# Altium footprint library Manu3.PcbLib: 69 footprints (part 2 of 5)
Each footprint in its own frame and in the unit in brackets; x right, y up, seen from the top. Pads: shape width x height; smd on the part's side, far side on the other; paste and mask are expansions set on the pad; w line width, h text height; cw(c..) or ccw(c..) is an arc to the next point about the centre after c.
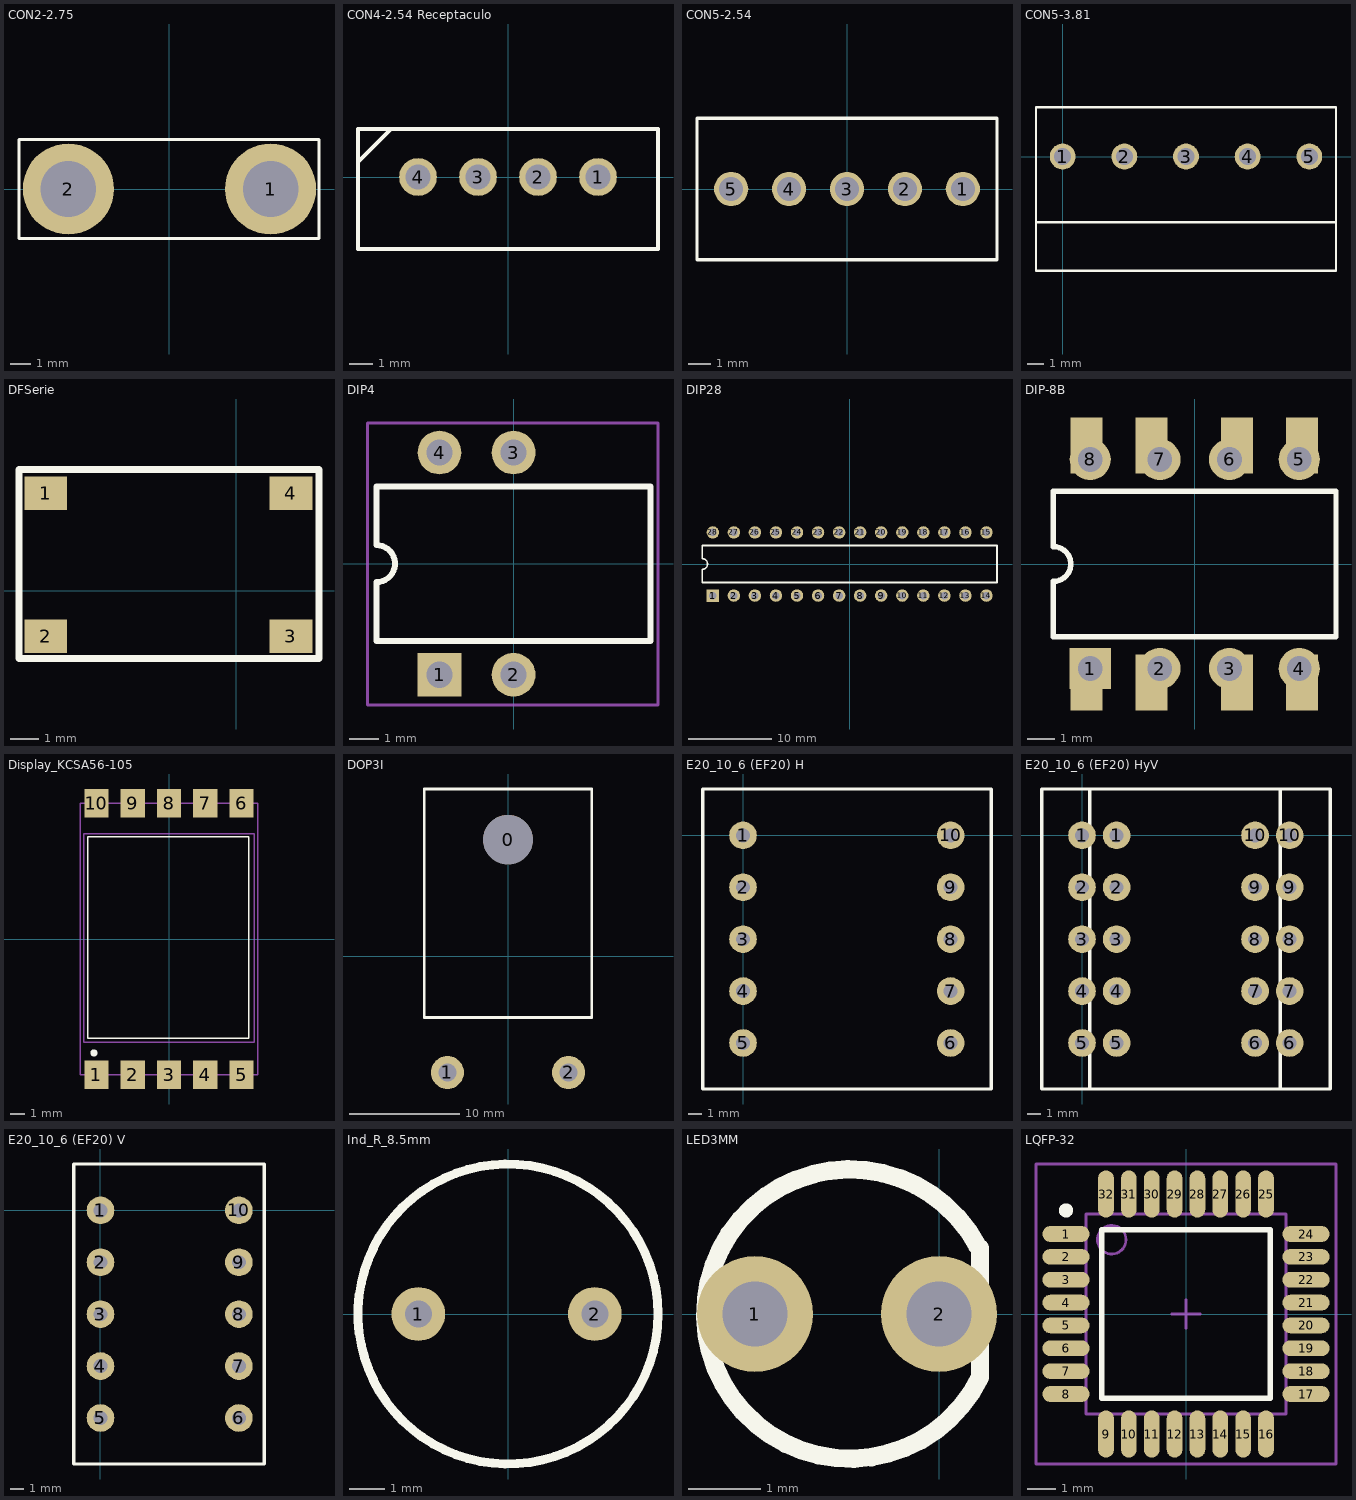
[diagram p1: the footprints below, top view; thin cyan lines are the x and y axes]

## CON2-2.75 [mm] "Conector Placa"
height 6
pads (2):
  round 4.5 hole 2.75: 1(5,0) 2(-5,0)
Top Overlay:
  lines w0.15: -7.438,-2.438 -7.438,2.438 7.391,2.438 7.391,-2.438 -7.438,-2.438

## CON4-2.54 Receptaculo [mm] "Conector Cable placa p= 2.54mm C.F: (4vias)"
height 6
pads (4):
  round 1.6 hole 1.05: 1(3.81,0) 2(1.27,0) 3(-1.27,0) 4(-3.81,0)
Top Overlay:
  lines w0.15: -6.35,0.635 -4.953,2.032 ; -6.35,-3.048 6.35,-3.048 6.35,2.032 -6.35,2.032 -6.35,-3.048

## CON5-2.54 [mm] "Conector Tornillo p= 2.54mm C.F: (5vias)"
height 8.5
pads (5):
  round 1.5 hole 1.05: 1(5.08,0) 2(2.54,0) 3(0,0) 4(-2.54,0) 5(-5.08,0)
Top Overlay:
  lines w0.15: -6.579,-3.099 -6.579,3.099 6.579,3.099 6.579,-3.099 -6.579,-3.099

## CON5-3.81 [mm] "Conector Tornillo p= 3.81mm C.F: (5vias)"
height 9
pads (5):
  round 1.6 hole 1.05: 1(0,0) 2(3.81,0) 3(7.62,0) 4(11.43,0) 5(15.24,0)
Top Overlay:
  lines w0.15: -1.651,-4.064 -1.651,3.048 16.891,3.048 16.891,-4.064 ; -1.651,-4.064 16.891,-4.064 ; -1.651,-4.064 -1.651,-7.064 16.891,-7.064 16.891,-4.064

## DFSerie [mm] "Puente Rectificador"
height 3.3
pads (4):
  rect 1.52x1.2 smd: 1(-6.788,3.476) 2(-6.788,-1.624) 3(1.952,-1.624) 4(1.952,3.476)
Top Overlay:
  lines w0.254: -7.747,-2.413 -7.747,4.318 2.952,4.318 2.952,-2.413 -7.747,-2.413
3D body: height 3.65, standoff 0.08, extent -7.563,-3.239 2.737,5.271

## DIP4 [mm] "DIP; 4 Leads; Row Spacing 7.62 mm; Pitch 2.54 mm"
height 3.5
pads (4):
  rect 1.5x1.5 hole 0.9: 1(-2.54,-3.81)
  round 1.5 hole 0.9: 2(0,-3.81) 3(0,3.81) 4(-2.54,3.81)
Top Overlay:
  lines w0.2: -4.7,-2.65 -4.7,-0.635 ccw(c-4.7,0) -4.7,0.635 -4.7,2.65 4.7,2.65 4.7,-2.65 -4.7,-2.65
Mechanical 15:
  lines w0.1: -5.004,-4.851 4.953,-4.851 4.953,4.826 -5.004,4.826 -5.004,-4.851
3D body: height 1.75, standoff 0, extent -4.724,-2.616 4.724,2.616

## DIP28 [mm] "DIP; 28 Leads; Row Spacing 7.62 mm; Pitch 2.54 mm"
height 4.58
pads (28):
  rect 1.5x1.5 hole 0.9: 1(-16.51,-3.81)
  round 1.5 hole 0.9: 2(-13.97,-3.81) 3(-11.43,-3.81) 4(-8.89,-3.81) 5(-6.35,-3.81) 6(-3.81,-3.81) 7(-1.27,-3.81) 8(1.27,-3.81) 9(3.81,-3.81) 10(6.35,-3.81) 11(8.89,-3.81) 12(11.43,-3.81) 13(13.97,-3.81) 14(16.51,-3.81) 15(16.51,3.81) 16(13.97,3.81) 17(11.43,3.81) 18(8.89,3.81) 19(6.35,3.81) 20(3.81,3.81) 21(1.27,3.81) 22(-1.27,3.81) 23(-3.81,3.81) 24(-6.35,3.81) 25(-8.89,3.81) 26(-11.43,3.81) 27(-13.97,3.81) 28(-16.51,3.81)
Top Overlay:
  lines w0.2: -17.78,-2.225 -17.78,-0.635 ccw(c-17.78,0) -17.78,0.635 -17.78,2.225 17.78,2.225 17.78,-2.225 -17.78,-2.225
3D body: height 4.57, standoff -3.81, extent -17.475,-4.01 17.575,3.81

## DIP-8B [mm] "DIP; 8 Leads; Row Spacing 7.62 mm; Pitch 2.54 mm"
height 5.33
pads (16):
  rect 1.5x1.5 hole 0.9: 1(-3.81,-3.81)
  round 1.5 hole 0.9: 2(-1.27,-3.81) 3(1.27,-3.81) 4(3.81,-3.81) 5(3.81,3.81) 6(1.27,3.81) 7(-1.27,3.81) 8(-3.81,3.81)
  rect 1.168x2.032 smd: ""(-3.937,-4.318) ""(-3.937,4.318) ""(-1.575,-4.318) ""(-1.575,4.318) ""(1.549,-4.318) ""(1.549,4.318) ""(3.912,-4.318) ""(3.912,4.318)
Top Overlay:
  lines w0.2: -5.15,-2.65 5.15,-2.65 5.15,2.65 -5.15,2.65 -5.15,0.635 cw(c-5.15,0) -5.15,-0.635 -5.15,-2.65

## Display_KCSA56-105 [mm] "Pinout Display KCSA56-105"
height 3.75
pads (10):
  rect 1.7x2 smd: 1(-5.08,-9.5) 2(-2.54,-9.5) 3(0,-9.5) 4(2.54,-9.5) 5(5.08,-9.5) 6(5.08,9.5) 7(2.54,9.5) 8(0,9.5) 9(-2.54,9.5) 10(-5.08,9.5)
Top Overlay:
  circle w0.25: c-5.256,-7.976 r0.125
  lines w0.1: -5.675,-6.96 -5.675,7.163 5.588,7.163 5.588,-6.96 -5.675,-6.96
Mechanical 13:
  lines w0.1: -5.969,-7.227 -5.969,7.378 5.969,7.378 5.969,-7.227 -5.969,-7.227
Mechanical 15:
  lines w0.1: -6.2,-9.5 0,-9.5 6.2,-9.5 6.2,9.5 0,9.5 -6.2,9.5 -6.2,-9.5
3D body: height 1.75, standoff 0.03, extent -5.969,-7.354 5.969,7.378

## DOP3I [mm]
height 4.6
pads (3):
  round 4.5 hole 4.5: 0(0,10.575)
  round 3 hole 1.6: 1(-5.5,-10.575) 2(5.5,-10.575)
Top Overlay:
  lines w0.254: -7.6,-5.575 -7.6,15.175 0,15.175 7.6,15.175 7.6,-5.575 0,-5.575 -7.6,-5.575

## E20_10_6 (EF20) H [mil] "Nucleos Transformador"
height 661.42
pads (10):
  round 80 hole 40: 1(0,0) 2(0,-150) 3(0,-300) 4(0,-450) 5(0,-600) 6(600,-600) 7(600,-450) 8(600,-300) 9(600,-150) 10(600,0)
Top Overlay:
  lines w10: -117,-733 -117,134 718,134 718,-733 -117,-733

## E20_10_6 (EF20) HyV [mil] "Nucleos Transformador"
height 779.53
pads (20):
  round 80 hole 40: 1(0,0) 1(100,0) 2(0,-150) 2(100,-150) 3(0,-300) 3(100,-300) 4(0,-450) 4(100,-450) 5(0,-600) 5(100,-600) 6(500,-600) 6(600,-600) 7(500,-450) 7(600,-450) 8(500,-300) 8(600,-300) 9(500,-150) 9(600,-150) 10(500,0) 10(600,0)
Top Overlay:
  lines w10: -117,-733 -117,134 718,134 718,-733 -117,-733 ; 23,-733 573,-733 573,134 23,134 23,-733
3D body: height 639.2, standoff -14.34, extent -105.54,-689 701.54,118.08

## E20_10_6 (EF20) V [mil] "Nucleos Transformador"
height 779.53
pads (10):
  round 80 hole 40: 1(0,0) 2(0,-150) 3(0,-300) 4(0,-450) 5(0,-600) 6(400,-600) 7(400,-450) 8(400,-300) 9(400,-150) 10(400,0)
Top Overlay:
  lines w10: -77,-733 -77,134 473,134 473,-733 -77,-733

## Ind_R_8.5mm [mil] "P_5mm"
height 433.07
pads (2):
  round 60 hole 30: 1(-100,0) 2(96.85,0)
Top Overlay:
  circle w10: c0,0 r167.32
3D body: height 393.7, standoff -177.17, extent -159.54,-155.54 147.55,151.55

## LED3MM [mm] "Led Convencional 3mm"
height 5
pads (2):
  round 1.6 hole 0.9: 1(-2.54,0) 2(0,0)
Top Overlay:
  lines w0.254: 0.529,0.944 ccw(c-1.23,0) 0.565,-0.873 ; 0.565,-0.873 0.565,0.908

## LQFP-32 [mm] "Thin QFP, 32-Leads, Body 7x7mm, Pitch 0.8mm, IPC Medium Density"
height 1.6
pads (32):
  oval 1.65x0.55 smd: 1(-4.2,2.8) 2(-4.2,2) 3(-4.2,1.2) 4(-4.2,0.4) 5(-4.2,-0.4) 6(-4.2,-1.2) 7(-4.2,-2) 8(-4.2,-2.8) 17(4.2,-2.8) 18(4.2,-2) 19(4.2,-1.2) 20(4.2,-0.4) 21(4.2,0.4) 22(4.2,1.2) 23(4.2,2) 24(4.2,2.8)
  oval 0.55x1.65 smd: 9(-2.8,-4.2) 10(-2,-4.2) 11(-1.2,-4.2) 12(-0.4,-4.2) 13(0.4,-4.2) 14(1.2,-4.2) 15(2,-4.2) 16(2.8,-4.2) 25(2.8,4.2) 26(2,4.2) 27(1.2,4.2) 28(0.4,4.2) 29(-0.4,4.2) 30(-1.2,4.2) 31(-2,4.2) 32(-2.8,4.2)
Top Overlay:
  circle w0.25: c-4.2,3.625 r0.125
  lines w0.2: -2.95,-2.95 -2.95,2.95 2.95,2.95 2.95,-2.95 -2.95,-2.95
Mechanical 13:
  circle w0.1: c-2.6,2.6 r0.5
  lines w0.1: -3.5,-3.5 -3.5,3.5 3.5,3.5 3.5,-3.5 -3.5,-3.5
Mechanical 15:
  lines w0.1: -0.5,0 0.5,0 ; 0,-0.5 0,0.5 ; -5.25,-5.25 -5.25,5.25 5.25,5.25 5.25,-5.25 -5.25,-5.25
3D body: height 1.6, standoff 0, extent -3.5,-3.5 3.5,3.5